# Altium schematic symbol library XVF3000-TQ128-C.SchLib: 1 symbol
Pins are listed as number, name and electrical type; pins without a type are passive.

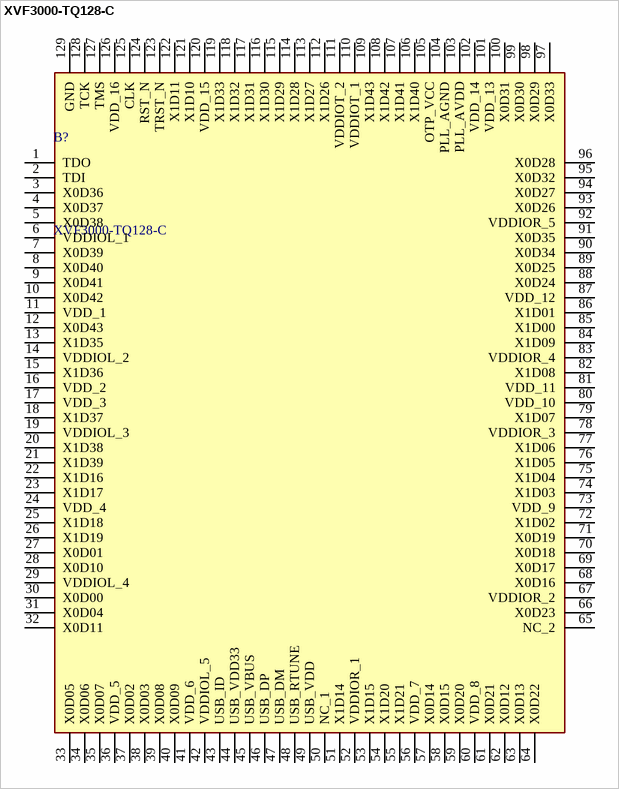
[diagram p0: symbol XVF3000-TQ128-C]

## XVF3000-TQ128-C
designator B?
IC PROC 32BIT VOICE XCORE TQ128; Manufacturer_Name: XMOS; Geometry.Height: 1.2mm; Manufacturer_Part_Number: XVF3000-TQ128-C; Mouser Part Number: *; Mouser Price/Stock: *; Arrow Part Number: *; Arrow Price/Stock: *; Datasheet Link: https://datasheet.datasheetarchive.com/originals/distributors/DKDS-37/730530.pdf
footprint QFP40P1600X1600X120-129N
pins: 1 TDO, 2 TDI, 3 X0D36, 4 X0D37, 5 X0D38, 6 VDDIOL_1, 7 X0D39, 8 X0D40, 9 X0D41, 10 X0D42, 11 VDD_1, 12 X0D43, 13 X1D35, 14 VDDIOL_2, 15 X1D36, 16 VDD_2, 17 VDD_3, 18 X1D37, 19 VDDIOL_3, 20 X1D38, 21 X1D39, 22 X1D16, 23 X1D17, 24 VDD_4, 25 X1D18, 26 X1D19, 27 X0D01, 28 X0D10, 29 VDDIOL_4, 30 X0D00, 31 X0D04, 32 X0D11, 33 X0D05, 34 X0D06, 35 X0D07, 36 VDD_5, 37 X0D02, 38 X0D03, 39 X0D08, 40 X0D09, 41 VDD_6, 42 VDDIOL_5, 43 USB_ID, 44 USB_VDD33, 45 USB_VBUS, 46 USB_DP, 47 USB_DM, 48 USB_RTUNE, 49 USB_VDD, 50 NC_1, 51 X1D14, 52 VDDIOR_1, 53 X1D15, 54 X1D20, 55 X1D21, 56 VDD_7, 57 X0D14, 58 X0D15, 59 X0D20, 60 VDD_8, 61 X0D21, 62 X0D12, 63 X0D13, 64 X0D22, 65 NC_2, 66 X0D23, 67 VDDIOR_2, 68 X0D16, 69 X0D17, 70 X0D18, 71 X0D19, 72 X1D02, 73 VDD_9, 74 X1D03, 75 X1D04, 76 X1D05, 77 X1D06, 78 VDDIOR_3, 79 X1D07, 80 VDD_10, 81 VDD_11, 82 X1D08, 83 VDDIOR_4, 84 X1D09, 85 X1D00, 86 X1D01, 87 VDD_12, 88 X0D24, 89 X0D25, 90 X0D34, 91 X0D35, 92 VDDIOR_5, 93 X0D26, 94 X0D27, 95 X0D32, 96 X0D28, 97 X0D33, 98 X0D29, 99 X0D30, 100 X0D31, 101 VDD_13, 102 VDD_14, 103 PLL_AVDD, 104 PLL_AGND, 105 OTP_VCC, 106 X1D40, 107 X1D41, 108 X1D42, 109 X1D43, 110 VDDIOT_1, 111 VDDIOT_2, 112 X1D26, 113 X1D27, 114 X1D28, 115 X1D29, 116 X1D30, 117 X1D31, 118 X1D32, 119 X1D33, 120 VDD_15, 121 X1D10, 122 X1D11, 123 TRST_N, 124 RST_N, 125 CLK, 126 VDD_16, 127 TMS, 128 TCK, 129 GND